# Altium schematic symbol library Blinkinlabs.SchLib: 159 symbols (part 1 of 2)
Pins are listed as number, name and electrical type; pins without a type are passive.

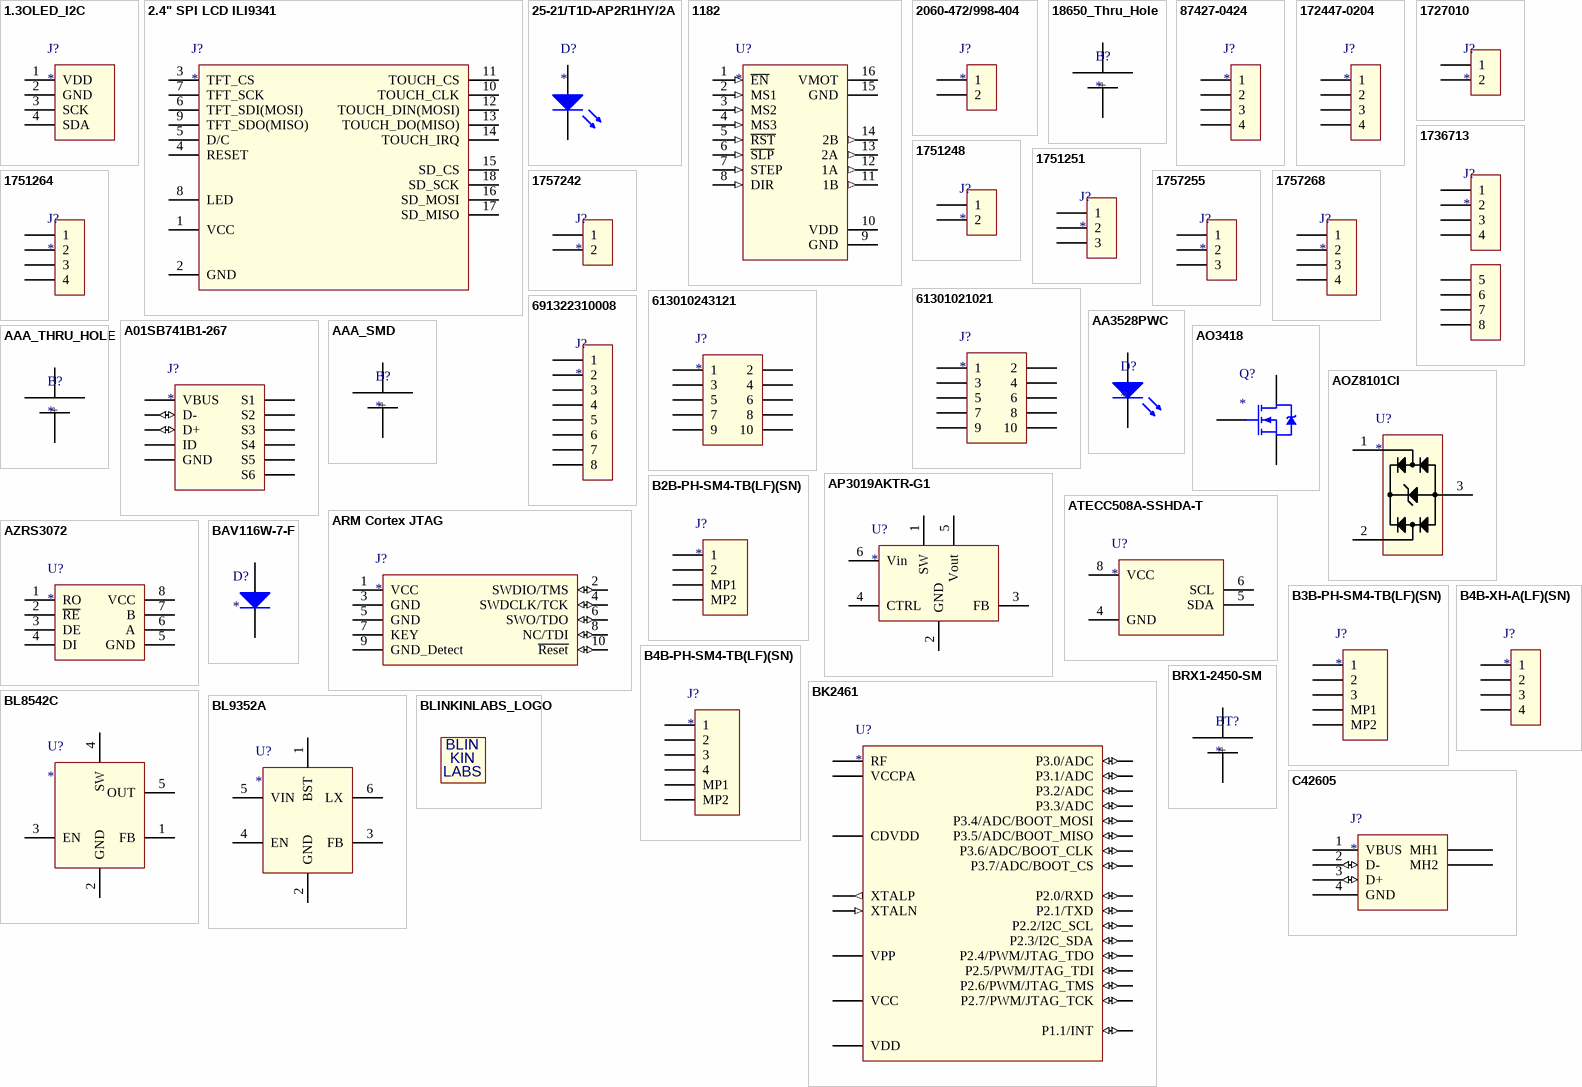
[diagram p0: symbols 1.3OLED_I2C to C42605]

## 1.3OLED_I2C
designator J?
Generic single color, 1.3" OLED with I2C connection; Manufacturer: Unknown/Generic; PartNumber: Unknown/Generic
pins: 1 VDD, 2 GND, 3 SCK, 4 SDA

## 2.4" SPI LCD ILI9341
designator J?
Generic 2.4 inch SPI LCD TFT serial module 240x320 with touch ILI9341; Manufacturer: Unknown/Generic; PartNumber: Unknown/Generic
footprint 2.4" SPI LCD ILI9341 (Generic 2.4 inch SPI LCD TFT serial module 240x320 with touch ILI9341)
pins: 1 VCC, 2 GND, 3 TFT_CS, 4 RESET, 5 D/C, 6 TFT_SDI(MOSI), 7 TFT_SCK, 8 LED, 9 TFT_SDO(MISO), 10 TOUCH_CLK, 11 TOUCH_CS, 12 TOUCH_DIN(MOSI), 13 TOUCH_DO(MISO), 14 TOUCH_IRQ, 15 SD_CS, 16 SD_MOSI, 17 SD_MISO, 18 SD_SCK

## 25-21/T1D-AP2R1HY/2A
designator D?
Reverse mount LED in 1206 package, white; Manufacturer: Everlight; PartNumber: 25-21/T1D-AP2R1HY/2A
footprint 25-21/T1D-AP2R1HY/2A (Reverse mount LED in 1206 package, white)
pins: 1, 2

## 1182
designator U?
A4988 Stepper Motor Driver Carrier; Manufacturer: Pololu; PartNumber: 1182
footprint A4988_Carrier (A4988 Stepper Motor Driver Carrier)
pins: 1 ~{EN} (in) "Enable", 2 MS1 (in) "Micostep mode select 1", 3 MS2 (in) "Micostep mode select 2", 4 MS3 (in) "Micostep mode select 3", 5 ~{RST} (in) "Reset", 6 ~{SLP} (in) "Sleep", 7 STEP (in) "Step input", 8 DIR (in) "Direction", 9 GND (power) "Ground", 10 VDD (power) "Logic voltage", 11 1B (out) "Coil B output 1", 12 1A (out) "Coil A output 1", 13 2A (out) "Coil A output 2", 14 2B (out) "Coil B output 2", 15 GND (power) "Ground", 16 VMOT (power) "Motor voltage"

## 2060-472/998-404
designator J?
SMD PCB terminal block; Push-button; 0.75 mm²; Pin spacing 4 mm; 2-pole; / Push-in CAGE CLAMP®; in tape-and-reel packaging; Manufacturer: Wago; PartNumber: 2060-472_998-404; ComponentLink2Description: Datasheet; ComponentLink2URL: Wago_2060-472_998-404.pdf
footprint 2060-472/998-404 (SMD PCB terminal block; Push-button; 0.75 mm²; Pin spacing 4 mm; 2-pole;   Push-in CAGE CLAMP®; in tape-and-reel packaging)
pins: 1, 2, 3, 4

## 18650_Thru_Hole
designator B?
18650 battery holder, thru-hole; Manufacturer: Unknown/Generic; PartNumber: Unknown/Generic
footprint 18650_thru_hole
pins: 1       + (power), 2       – (power)

## 87427-0424
designator J?
Molex Mini-Fit Jr.™ Header, 4.20mm Pitch, Right Angle, Nylon, without Mounting Flange, 4 Circuits, Tin (Sn) over Nickel (Ni) Plating, Lead-Free, Tube Packaging; PartNumber: 87427-0424; Manufacturer: Molex
footprint 87427-0424 (Molex Mini-Fit Jr.™ Header, 4.20mm Pitch, Right Angle, Nylon, without Mounting Flange, 4 Circuits, Tin (Sn) over Nickel (Ni) Plating, Lead-Free, Tube Packaging)
pins: 1, 2, 3, 4

## 172447-0204
designator J?
Mini-Fit Jr.™ Header, Dual Row, Vertical, without Snap-in Plastic Peg PCB Lock, 4 Circuits, PA Polyamide Nylon 6/6 94V-2, Tin (Sn) Plating, Glow Wire Capable; Manufacturer: Molex; PartNumber: 172447-0204
footprint 172447-0204 (Molex Mini-Fit Jr.™ Vertical Header, 4.20mm Pitch, Dual Row, 4 Circuits, without Snap-in Plastic Peg PCB Lock, Tin, Natural)
pins: 1, 2, 3, 4

## 1727010
designator J?
PCB terminal block, nominal current: 13.5 A, pitch: 3.81 mm, number of positions: 2, connection method: Screw connection with tension sleeve, mounting: Wave soldering, conductor/PCB connection direction: 0 °, color: green; Manufacturer: Phoenix Contact; PartNumber: 1727010; ComponentLink2Description: Datasheet; ComponentLink2URL: 1757268_06_en_00.pdf
footprint 1727010 (PCB terminal block - MKDS 1/ 2-3,81 - 1727010)
pins: 1, 2

## 1736713
designator J?
TERM BLOCK HDR 8POS 90DEG 5.08MM; Manufacturer: Phoenix Contact; PartNumber: 1736713; ComponentLink2Description: Datasheet; ComponentLink2URL: 1757268_06_en_00.pdf
footprint 1736713 (TERM BLOCK HDR 8POS 90DEG 5.08MM)
pins: 1, 2, 3, 4, 5, 6, 7, 8

## 1751248
designator J?
TERM BLK 2POS SIDE ENT 3.5MM PCB; Manufacturer: Phoenix Contact; PartNumber: 1751248
footprint 1751248 (TERM BLK 2POS SIDE ENT 3.5MM PCB)
pins: 1, 2

## 1751251
designator J?
TERM BLK 3POS SIDE ENT 3.5MM PCB; Manufacturer: Phoenix Contact; PartNumber: 1751251
footprint 1751251 (TERM BLK 3POS SIDE ENT 3.5MM PCB)
pins: 1, 2, 3

## 1751264
designator J?
TERM BLK 4POS SIDE ENT 3.5MM PCB; Manufacturer: Phoenix Contact; PartNumber: 1751264
footprint 1751264 (PCB terminal block - MKDS 1/ 4-3,5 - 1751264)
pins: 1, 2, 3, 4

## 1757242
designator J?
TERM BLOCK HDR 2POS 90DEG 5.08MM; Manufacturer: Phoenix Contact; PartNumber: 1757268; ComponentLink2Description: Datasheet; ComponentLink2URL: 1757268_06_en_00.pdf
footprint 1757242 (TERM BLOCK HDR 2POS 90DEG 5.08MM)
pins: 1, 2

## 1757255
designator J?
TERM BLOCK HDR 3POS 90DEG 5.08MM; Manufacturer: Phoenix Contact; PartNumber: 1757268; ComponentLink2Description: Datasheet; ComponentLink2URL: 1757268_06_en_00.pdf
footprint 1757255 (TERM BLOCK HDR 3POS 90DEG 5.08MM)
pins: 1, 2, 3

## 1757268
designator J?
TERM BLOCK HDR 4POS 90DEG 5.08MM; Manufacturer: Phoenix Contact; PartNumber: 1757268; ComponentLink2Description: Datasheet; ComponentLink2URL: 1757268_06_en_00.pdf
footprint 1757268 (TERM BLOCK HDR 4POS 90DEG 5.08MM)
pins: 1, 2, 3, 4

## 61301021021
designator J?
10 Positions Header Connector 0.100" (2.54mm) Through Hole, Right Angle Gold; Manufacturer: Wurth Electronics Inc; PartNumber: 61301021021; ComponentLink2Description: Datasheet; ComponentLink2URL: 6130xx21021.pdf
footprint 61301021021 (2.54MM ANGLED DUAL PIN HEADER)
pins: 1, 2, 3, 4, 5, 6, 7, 8, 9, 10

## 613010243121
designator J?
10 Position Header Connector 0.100" (2.54mm) Through Hole, Right Angle Gold; Manufacturer: Wurth Electronics Inc; PartNumber: 613010243121; ComponentLink2Description: Datasheet; ComponentLink2URL: 6130xx243121.pdf
footprint 613010243121 (2.54MM ANGLED DUAL SOCKET HEADER)
pins: 1, 2, 3, 4, 5, 6, 7, 8, 9, 10

## 691322310008
designator J?
8 Position Terminal Block Header, Male Pins, Shrouded (4 Side) 0.150" (3.81mm) 90°, Right Angle Through Hole; Manufacturer: Wurth Electronics Inc; PartNumber: 691322310008
footprint 691322310008 (8 Position Terminal Block Header, Male Pins, Shrouded (4 Side) 0.150" (3.81mm) 90°, Right Angle Through Hole)
pins: 1, 2, 3, 4, 5, 6, 7, 8

## A01SB741B1-267
designator J?
Micro USB B type 四脚全插牛角; PartNumber: Unknown/Generic; Manufacturer: Unknown/Generic
footprint A01SB741B1-267 (micro usb B type)
pins: D+ (io), D- (io), GND (power), ID, S1, S2, S3, S4, S5, S6, VBUS (power)

## AA3528PWC
designator D?
3.5x2.8mm SURFACE MOUNT LED LAMP, WHITE (InGaN); Manufacturer: Kingbright; PartNumber: AA3528PWC
footprint AA3528PWC (3.5x2.8mm SURFACE MOUNT LED LAMP)
footprint AA3528PWC -HD (3.5x2.8mm SURFACE MOUNT LED LAMP)
pins: 1, 2

## AAA_SMD
designator B?
AAA battery holder, surface mount.; Manufacturer: Unknown/Generic; PartNumber: Unknown/Generic
footprint AAA_SMD
pins: 1       + (power), 2       – (power)

## AAA_THRU_HOLE
designator B?
AAA battery holder, thru hole; Manufacturer: Unknown/Generic; PartNumber: Unknown/Generic
footprint AAA_SMD_THRU_HOLE
pins: 1       + (power), 2       – (power)

## AO3418
designator Q?
30V N-Channel MOSFET; Manufacturer: Alpha & Omega; PartNumber: AO3418; ComponentLink2Description: Datasheet; ComponentLink2URL: ao3418.pdf
footprint SOT95P280X125-3N (SOT23, 3-Leads, Body 2.95x2.80mm, Pitch 0.95mm, IPC Medium Density)
pins: 1 GATE, 2 SOURCE, 3 DRAIN

## AOZ8101CI
designator U?
Ultra-Low Capacitance TVS Diode Array; Manufacturer: Alpha & Omega; PartNumber: AOZ8101; ComponentLink2Description: Datasheet; ComponentLink2URL: AOZ8101.pdf
footprint SOT95P280X125-3N (SOT23, 3-Leads, Body 2.95x2.80mm, Pitch 0.95mm, IPC Medium Density)
pins: 1, 2, 3

## AP3019AKTR-G1
designator U?
WHITE  LED  STEP-UP  CONVERTER; Manufacturer: BCD  Semiconductor  Manufacturing  Limited; PartNumber: AP3019AKTR-G1
footprint SOT95P280X145-6N-2 (Footprint not found)
pins: 1 SW, 2 GND, 3 FB, 4 CTRL, 5 Vout, 6 Vin

## ARM Cortex JTAG
designator J?
Arm Cortex 10-pin JTAG connector; Manufacturer: Unknown/Generic; PartNumber: unknown/Generic
footprint 1.27mm 2x5 SMD Header
footprint 1.27mm 2x5 SMD Header - no paste
pins: 1 VCC (power), 2 SWDIO/TMS (io), 3 GND (power), 4 SWDCLK/TCK (io), 5 GND (power), 6 SWO/TDO (io), 7 KEY, 8 NC/TDI (io), 9 GND_Detect (power), 10 ~{Reset} (io)

## ATECC508A-SSHDA-T
designator U?
Cryptographic Co-processor with Secure Hardware-Based Key Storage; PartNumber: ATECC508A-SSHDA-T; Manufacturer: Microchip
footprint SOIC127P600X175-8N (SOIC, 8-Leads, Body 4.90x3.90mm, Pitch 1.27mm, IPC Medium Density)
pins: 4 GND, 5 SDA, 6 SCL, 8 VCC

## AZRS3072
designator U?
ESD-Protected, Slew-Rate-Limited, True Fail-Safe 3.3V RS485 Transceiver IC; Manufacturer: Amazing Microelectronic Corp.; PartNumber: AZRS3072
footprint SOIC127P600X175-8N (SOIC, 8-Leads, Body 4.90x3.90mm, Pitch 1.27mm, IPC Medium Density)
pins: 1 RO, 2 ~{RE}, 3 DE, 4 DI, 5 GND, 6 A, 7 B, 8 VCC

## B2B-PH-SM4-TB(LF)(SN)
designator J?
CONN HEADER SMD R/A 2POS 2MM; Manufacturer: JST; PartNumber: B2B-PH-SM4-TB(LF)(SN)
footprint B2B-PH-SM4-TB(LF)(SN) (CONN HEADER SMD 2POS 2MM)
pins: 1, 2, MP1, MP2

## B3B-PH-SM4-TB(LF)(SN)
designator J?
CONN HEADER SMD R/A 3POS 2MM; Manufacturer: JST; PartNumber: B3B-PH-SM4-TB(LF)(SN)
footprint B3B-PH-SM4-TB(LF)(SN) (CONN HEADER SMD 3POS 2MM)
pins: 1, 2, 3, MP1, MP2

## B4B-PH-SM4-TB(LF)(SN)
designator J?
CONN HEADER SMD R/A 3POS 2MM; Manufacturer: JST; PartNumber: B4B-PH-SM4-TB(LF)(SN)
footprint B4B-PH-SM4-TB(LF)(SN) (CONN HEADER SMD 4POS 2MM)
pins: 1, 2, 3, 4, MP1, MP2

## B4B-XH-A(LF)(SN)
designator J?
CONN HEADER XH TOP 4POS 2.5MM; Manufacturer: JST Manufacturing; PartNumber: B4B-XH-A(LF)(SN)
footprint B4B-XH-A(LF)(SN) (CONN HEADER XH TOP 4POS 2.5MM)
pins: 1, 2, 3, 4

## BAV116W-7-F
designator D?
Surface Mount Low Leakage Diode, Vr=130V, If=215mA, Vf=1.25V @ 150mA, Ir=5nA@25C; Manufacturer: Diodes Incorporated; PartNumber: BAV116W-7-F
footprint SOD123 (Hand drawn)
pins: 1 K, 2 A

## BK2461
designator U?
FLIP51 MCU+RF; Manufacturer: Beken; PartNumber: BK2461
footprint QFN50P400X400X90_HS-25N (QFN, 24-Leads, Body 4.00x4.00mm, Pitch 0.50mm, Thermal Pad 2.70x2.70mm, IPC Medium Density)
pins: 1 VCC (power) "3v supply", 2 RF "Antenna input/output", 3 VCCPA (power) "PA power output, connected with decoupling CAP", 4 P3.7/ADC/BOOT_CS (io) "General I/O，ADC input", 5 P3.6/ADC/BOOT_CLK (io) "General I/O，ADC input", 6 P3.5/ADC/BOOT_MISO (io) "General I/O，ADC input", 7 VPP (power) "Mode select and 6.5V power supply for OTP burning, or P12 output(PWM)", 8 P3.4/ADC/BOOT_MOSI (io) "General I/O，ADC input", 9 P3.3/ADC (io) "General I/O，ADC input", 10 P3.2/ADC (io) "General I/O，ADC input", 11 P1.1/INT (io) "General I/O， external interrupt", 12 P3.1/ADC (io) "General I/O，ADC input", 13 P2.0/RXD (io) "General I/O，or input for UART", 14 P3.0/ADC (io) "General I/O，ADC input", 15 P2.1/TXD (io) "General I/O，or output for UART", 16 P2.2/I2C_SCL (io) "General I/O，or I2C SCL", 17 P2.3/I2C_SDA (io) "General I/O，or I2C SDA", 18 P2.4/PWM/JTAG_TDO (io) "General I/O，or PWM, or JTAG", 19 P2.5/PWM/JTAG_TDI (io) "General I/O，or PWM, or JTAG", 20 P2.7/PWM/JTAG_TCK (io) "General I/O，or PWM, or JTAG", 21 P2.6/PWM/JTAG_TMS (io) "General I/O，or PWM, or JTAG", 22 CDVDD "power output, connected with decoupling CAP", 23 XTALP (out) "Oscillator output", 24 XTALN (in) "Oscillator input", 25 VDD (power)

## BL8542C
designator U?
0.85V startup, 1MHz, 300mA Iout,  Synchronous Boost Converter (adjustable output); Manufacturer: Belling; PartNumber: BL8542C
footprint SOT95P280X130-5N (SOT23, 5-Leads, Body 2.90x2.80mm, Pitch 0.95mm, IPC Medium Density)
pins: 1 FB, 2 GND, 3 EN, 4 SW, 5 OUT

## BL9352A
designator U?
45V, 1.6MHz, 600mA Step-Down Converter; Manufacturer: Belling; PartNumber: BL9352A; ComponentLink2Description: Datasheet; ComponentLink2URL: BL9352A_V1.1_en.pdf
footprint SOT95P280X125-6N (SOT23, 6-Leads, Body 2.92x2.80mm, Pitch 0.95mm, IPC Medium Density)
pins: 1 BST "Bootstrap pin for top Switch. In Typ. application, a 0.1uF or larger capacitor should be connected between this pin and the LX pin to supply current to the top Switch gate and top Switch driver.", 2 GND "Analog Ground", 3 FB "Output feedback pin. In Typ. application, FB senses the output voltage and is regulated by the control loop to 800mV. Connect a resistive divider at FB.", 4 EN "Drive EN pin high to turn on the regulator and low to turn off the regulator", 5 VIN "Input voltage pin, In Typ. application, VIN supplies power to the IC. Connect a 4.5V to 45V supply to VIN and bypass VIN to GND with a suitably large capacitor to eliminate noise on the input to the IC.", 6 LX "LX is the Switching node that supplies power to the output Connect the output LC filter from LX to the output load."

## BLINKINLABS_LOGO
designator L?  (value not drawn)  (graphical)
Square logo
footprint BLINKINLABS_LOGO (Square blinkinlabs logo)
footprint BLINKINLABS_LOGO_SMALL (Small blinkinlabs logo)
text: BLIN; KIN; LABS

## BRX1-2450-SM
designator BT?
BATTERY HOLDER COIN CELL; Manufacturer: Memory Protection Devices, Inc; PartNumber: BRX1-2450-SM
footprint BRX1-2450-SM (CR2450 Surface Mount Battery Retainer)
pins: N       – (power), V1       + (power), V2 + (power), V3 + (power)

## C42605
designator J?
USB A connector, SMD, no tabs; Manufacturer: LC (立创); PartNumber: C42605
footprint C42605 (USB-A SMD)
pins: 1 VBUS (power) "USB 5V", 2 D- (io) "USB Data, negative", 3 D+ (io) "USB Data, positive", 4 GND (power) "Ground", 5 MH2 "Mounting Hole", 6 MH1 "Mounting Hole"

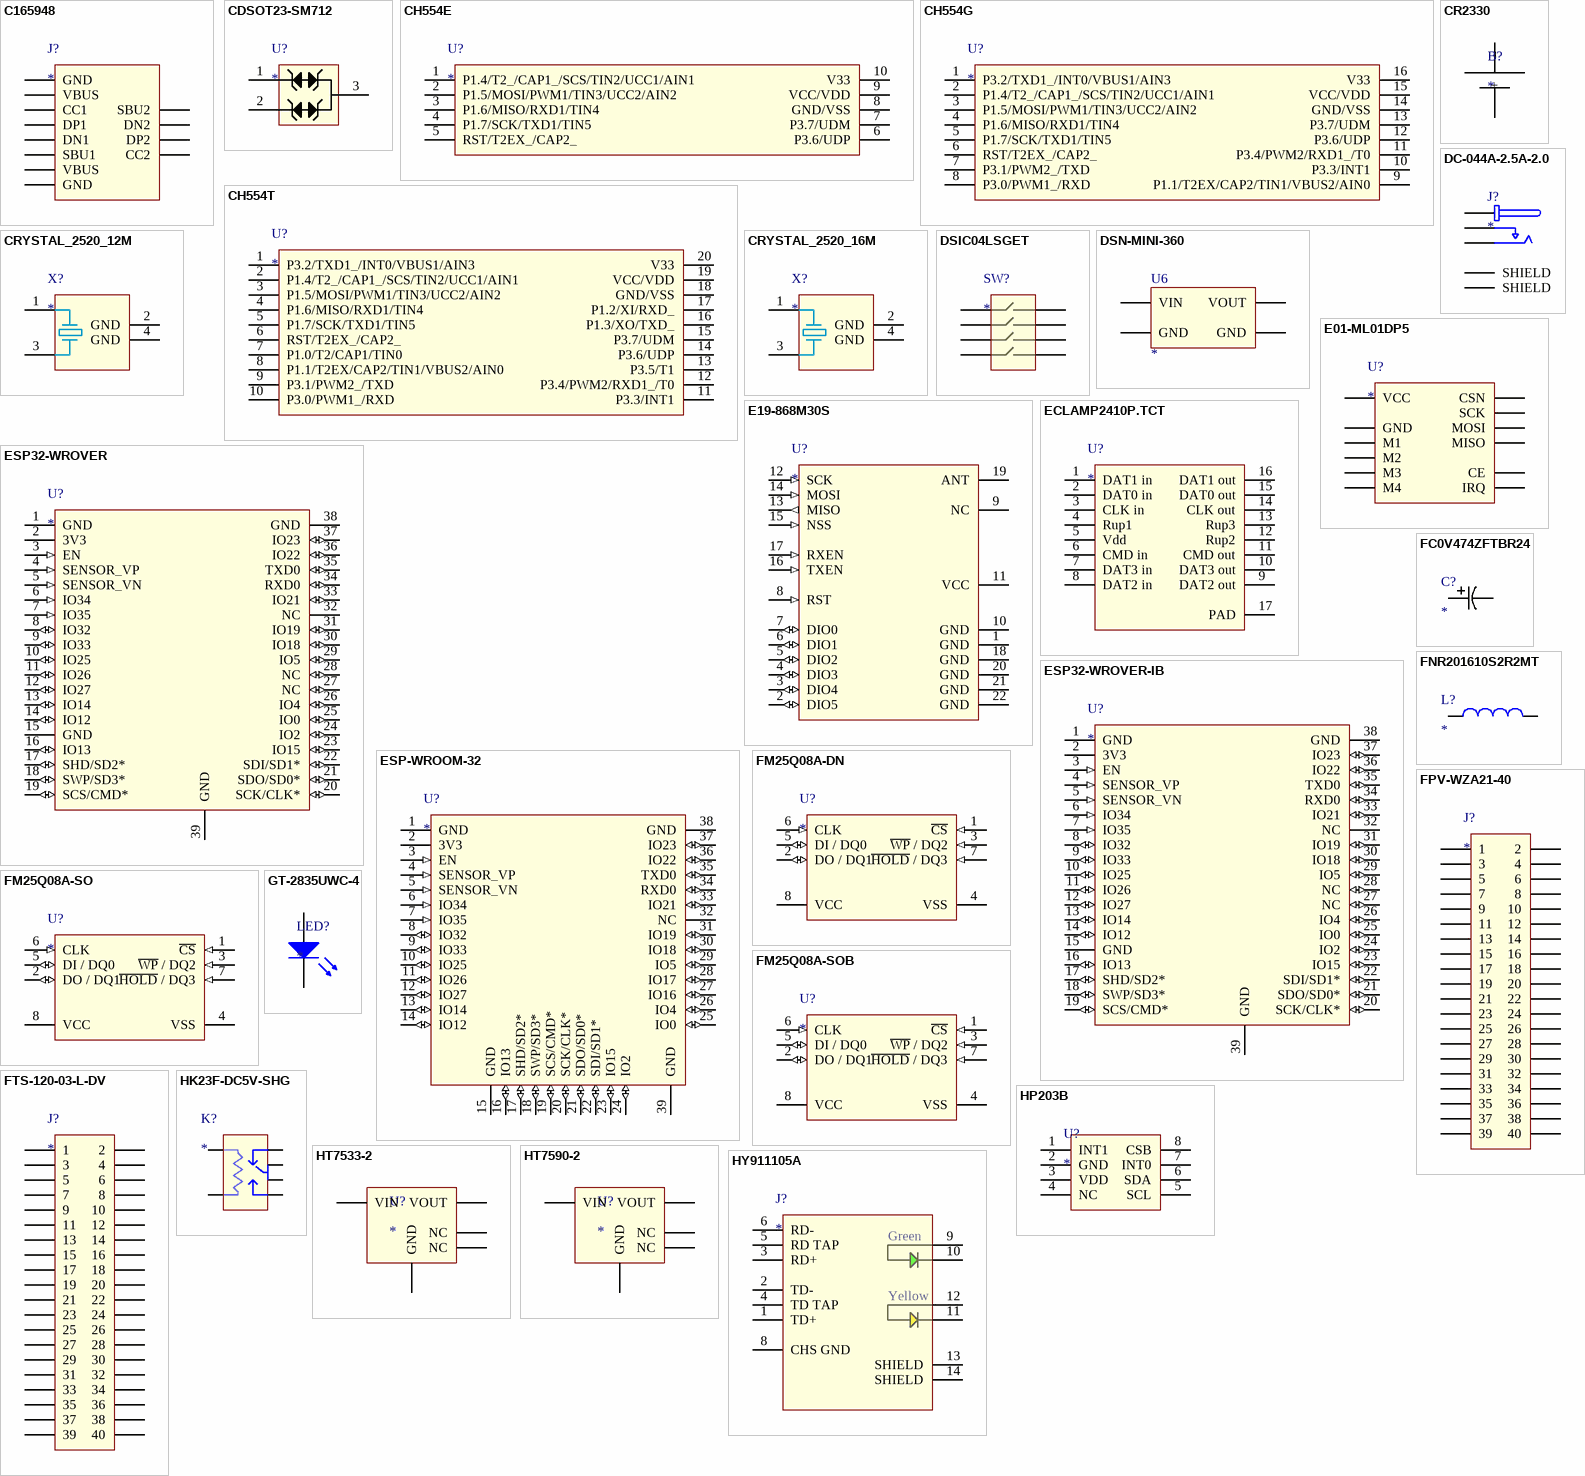
[diagram p1: symbols C165948 to HY911105A]

## C165948
designator J?
USB Connector TYPE-C-31-M-12 Female 16P SMD; Manufacturer: HRO; PartNumber: C165948
footprint C165948 (USB Connector TYPE-C-31-M-12 Female 16P SMD)
pins: A1/B12 GND, A4/B9 VBUS, A5 CC1, A6 DP1, A7 DN1, A8 SBU1, A9/B4 VBUS, A12/B1 GND, B5 CC2, B6 DP2, B7 DN2, B8 SBU2

## CDSOT23-SM712
designator U?
600 WATT TVS ARRAY - ASYMMETRICAL DATA LINE PROTECTOR; Manufacturer: Bourns; PartNumber: CDSOT23-SM712; ComponentLink2Description: Datasheet; ComponentLink2URL: Bourns CDSOT23-SM712.pdf
footprint SOT95P230X117-3N (SOT23, 3-Leads, Body 2.90x2.30mm, Pitch 0.95mm, IPC Medium Density)
pins: 1, 2, 3

## CH554E
designator U?
8-bit enhanced USB microcontroller; Manufacturer: WCH; PartNumber: CH554E
footprint LC-MSOP-10 (Footprint from SZLCSC example)
pins: 1 P1.4/T2_/CAP1_/SCS/TIN2/UCC1/AIN1, 2 P1.5/MOSI/PWM1/TIN3/UCC2/AIN2, 3 P1.6/MISO/RXD1/TIN4, 4 P1.7/SCK/TXD1/TIN5, 5 RST/T2EX_/CAP2_, 6 P3.6/UDP, 7 P3.7/UDM, 8 GND/VSS (power), 9 VCC/VDD (power), 10 V33 (power)

## CH554G
designator U?
8-bit enhanced USB microcontroller; Manufacturer: WCH; PartNumber: CH554G
footprint SOP127P600X175-16N (SOP, 16-Leads, Body 9.90x3.90mm, Pitch 1.27mm, IPC Medium Density)
pins: 1 P3.2/TXD1_/INT0/VBUS1/AIN3, 2 P1.4/T2_/CAP1_/SCS/TIN2/UCC1/AIN1, 3 P1.5/MOSI/PWM1/TIN3/UCC2/AIN2, 4 P1.6/MISO/RXD1/TIN4, 5 P1.7/SCK/TXD1/TIN5, 6 RST/T2EX_/CAP2_, 7 P3.1/PWM2_/TXD, 8 P3.0/PWM1_/RXD, 9 P1.1/T2EX/CAP2/TIN1/VBUS2/AIN0, 10 P3.3/INT1, 11 P3.4/PWM2/RXD1_/T0, 12 P3.6/UDP, 13 P3.7/UDM, 14 GND/VSS (power), 15 VCC/VDD (power), 16 V33 (power)

## CH554T
designator U?
8-bit enhanced USB microcontroller; Manufacturer: WCH; PartNumber: CH554T
footprint TSOP65P660X110-20N (TSOP, 20-Leads, Body 6.50x4.40mm, Pitch 0.65mm, IPC Medium Density)
pins: 1 P3.2/TXD1_/INT0/VBUS1/AIN3, 2 P1.4/T2_/CAP1_/SCS/TIN2/UCC1/AIN1, 3 P1.5/MOSI/PWM1/TIN3/UCC2/AIN2, 4 P1.6/MISO/RXD1/TIN4, 5 P1.7/SCK/TXD1/TIN5, 6 RST/T2EX_/CAP2_, 7 P1.0/T2/CAP1/TIN0, 8 P1.1/T2EX/CAP2/TIN1/VBUS2/AIN0, 9 P3.1/PWM2_/TXD, 10 P3.0/PWM1_/RXD, 11 P3.3/INT1, 12 P3.4/PWM2/RXD1_/T0, 13 P3.5/T1, 14 P3.6/UDP, 15 P3.7/UDM, 16 P1.3/XO/TXD_, 17 P1.2/XI/RXD_, 18 GND/VSS (power), 19 VCC/VDD (power), 20 V33 (power)

## CR2330
designator B?
CR2330 clip, Blinkinlabs design; Manufacturer: Blinkinlabs; PartNumber: CR2330
footprint CR2330 (Speculative case design for a CR2330)
pins: 1 + (power), 2       + (power), 3       – (power)

## CRYSTAL_2520_12M
designator X?
12 MHz, 8pF, 2520 Crystal resonator; Manufacturer: Kyocera; PartNumber: CX2520DB12000D0FLJC1; ComponentLink2Description: Datasheet; ComponentLink2URL: cx2520db_e.pdf
footprint CRYSTAL_SMD_2520 (Hand Drawn, 4-Leads, Body 2.5x2.0 mm)
pins: 1 XTAL1, 2 GND (power) "Ground", 3 XTAL2, 4 GND (power) "Ground"

## CRYSTAL_2520_16M
designator X?
16 MHz 2520 Crystal resonator; Manufacturer: Kyocera; PartNumber: CX2520DB16000D0GEJCC; ComponentLink2Description: Datasheet; ComponentLink2URL: cx2520db_e.pdf
footprint CRYSTAL_SMD_2520 (Hand Drawn, 4-Leads, Body 2.5x2.0 mm)
pins: 1 XTAL1, 2 GND (power) "Ground", 3 XTAL2, 4 GND (power) "Ground"

## DC-044A-2.5A-2.0
designator J?
DC Jack, 6mm OD, 2mm ID; Manufacturer: XKB; PartNumber: DC-044A-2.5A-2.0
footprint DC-044A-2.5A-2.0 (DC Jack, 6mm OD, 2mm ID)
pins: 1, 2, 3, 4 SHIELD, 5 SHIELD

## DSIC04LSGET
designator SW?
DIP switch / 2.54mm 4-bit; Manufacturer: KE; PartNumber: DSIC04LSGET
footprint DSIC04LSGET (DIP switch / 2.54mm 4-bit)
pins: 1, 2, 3, 4, 5, 6, 7, 8

## DSN-MINI-360
designator U6
Mini DC Adjustable Power Supply Buck Module Step Down Module; Manufacturer: Unknown/Generic; PartNumber: DSN-MINI-360
footprint DSN-MINI-360 (Mini DC Adjustable Power Supply Buck Module Step Down Module)
pins: IN+ VIN (power), IN- GND (power), OUT+ VOUT (power), OUT- GND (power)

## E01-ML01DP5
designator U?
2.4GHz 22dBm nRF24L01P+PA+LNA Wireless Transmission Module Shield Case; Manufacturer: Chengdu Ebyte Electronic Technology Co; PartNumber: E01-ML01DP5
footprint E01-ML01DP5 (2.4GHz 22dBm nRF24L01P+PA+LNA Wireless Transmission Module Shield Case)
pins: 1 GND, 2 VCC, 3 CE, 4 CSN, 5 SCK, 6 MOSI, 7 MISO, 8 IRQ, 9 M1, 10 M2, 11 M3, 12 M4

## E19-868M30S
designator U?
E19-868M30Sis a small-sized 868MHz LoRaTMSMD wireless module,  based on  the  original  imported  RF  chip  SX1276  from SEMTECH.; Manufacturer: Chengdu Ebyte Electronic Technology Co; PartNumber: E19-868M30S
footprint E19-868M30S (E19-868M30Sis a small-sized 868MHz LoRaTMSMD wireless module,  based on  the  original  imported  RF  chip  SX1276  from SEMTECH.)
pins: 1 GND (power), 2 DIO5 (io), 3 DIO4 (io), 4 DIO3 (io), 5 DIO2 (io), 6 DIO1 (io), 7 DIO0 (io), 8 RST (in), 9 NC, 10 GND (power), 11 VCC (power), 12 SCK (in), 13 MISO (out), 14 MOSI (in), 15 NSS (in), 16 TXEN (in), 17 RXEN (in), 18 GND (power), 19 ANT, 20 GND, 21 GND, 22 GND

## ECLAMP2410P.TCT
designator U?
ESD  Protection Device for T-Flash/MicroSD Interfaces; Manufacturer: Semtech; PartNumber: ECLAMP2410P.TCT
footprint SON50P160X65_HS-17N (SON, 16-Leads, Body 4.00x1.60mm, Pitch 0.50mm, Thermal Pad 3.20x0.33mm, IPC Medium Density)
pins: 1 DAT1 in, 2 DAT0 in, 3 CLK in, 4 Rup1, 5 Vdd, 6 CMD in, 7 DAT3 in, 8 DAT2 in, 9 DAT2 out, 10 DAT3 out, 11 CMD out, 12 Rup2, 13 Rup3, 14 CLK out, 15 DAT0 out, 16 DAT1 out, 17 PAD

## ESP32-WROVER
designator U?
ESP32 module with 4MB PSRAM; Manufacturer: Espressif Systems; PartNumber: ESP32-WROVER
footprint ESP32-WROVER
pins: 1 GND (power) "Ground", 2 3V3 (power) "Power supply", 3 EN (in) "Chip-enable signal. Active high", 4 SENSOR_VP (in) "GPIO36, SENSOR_VP, ADC_H, ADC1_CH0, RTC_GPIO0", 5 SENSOR_VN (in) "GPIO39, SENSOR_VN, ADC1_CH3, ADC_H, RTC_GPIO3", 6 IO34 (in) "GPIO34, ADC1_CH6, RTC_GPIO4", 7 IO35 (in) "GPIO35, ADC1_CH7, RTC_GPIO5", 8 IO32 (io) "GPIO32, XTAL_32K_P (32.768 kHz crystal oscillator input), ADC1_CH4, TOUCH9, RTC_BPIO9", 9 IO33 (io) "GPIO33, XTAL_32K_N (32.768 kHz crystal oscillator output), ADC1_CH5,  TOUCH8, RTC_GPIO8", 10 IO25 (io) "GPIO25, DAC_1, ADC2_CH8, RTC_GPIO6, EMAC_RXD0", 11 IO26 (io) "GPIO26, DAC_2, ADC2_CH9, RTC_GPIO7, EMAC_RXD1", 12 IO27 (io) "GPIO27, ADC2_CH7, TOUCH7, RTC_GPIO17, EMAC_RX_DV", 13 IO14 (io) "GPIO14, ADC2_CH6, TOUCH6, RTC_GPIO16, MTMS, HSPICLK,  HS2_CLK, SD_CLK, EMAC_TXD2", 14 IO12 (io) "GPIO12, ADC2_CH5, TOUCH5, RTC_GPIO15, MTDI, HSPIQ,  HS2_DATA2, SD_DATA2, EMAC_TXD3", 15 GND (power) "Ground", 16 IO13 (io) "GPIO13, ADC2_CH4, TOUCH4, RTC_GPIO14, MTCK, HSPID,  HS2_DATA3, SD_DATA3, EMAC_RX_ER", 17 SHD/SD2* (io) "GPIO9, SD_DATA2, SPIHD, HS1_DATA2, U1RXD", 18 SWP/SD3* (io) "GPIO10, SD_DATA3, SPIWP, HS1_DATA3, U1TXD", 19 SCS/CMD* (io) "GPIO11, SD_CMD, SPICS0, HS1_CMD, U1RTS", 20 SCK/CLK* (io) "GPIO6, SD_CLK, SPICLK, HS1_CLK, U1CTS", 21 SDO/SD0* (io) "GPIO7, SD_DATA0, SPIQ, HS1_DATA0, U2RTS", 22 SDI/SD1* (io) "GPIO8, SD_DATA1, SPID, HS1_DATA1, U2CTS", 23 IO15 (io) "GPIO15, ADC2_CH3, TOUCH3, MTDO, HSPICS0, RTC_GPIO13,  HS2_CMD, SD_CMD, EMAC_RXD3", 24 IO2 (io) "GPIO2, ADC2_CH2, TOUCH2, RTC_GPIO12, HSPIWP, HS2_DATA0,  SD_DATA0", 25 IO0 (io) "GPIO0, ADC2_CH1, TOUCH1, RTC_GPIO11, CLK_OUT1,  EMAC_TX_CLK", 26 IO4 (io) "GPIO4, ADC2_CH0, TOUCH0, RTC_GPIO10, HSPIHD, HS2_DATA1,  SD_DATA1, EMAC_TX_ER", 27 NC (io), 28 NC (io), 29 IO5 (io) "GPIO5, VSPICS0, HS1_DATA6, EMAC_RX_CLK", 30 IO18 (io) "GPIO18, VSPICLK, HS1_DATA7", 31 IO19 (io) "GPIO19, VSPIQ, U0CTS, EMAC_TXD0", 32 NC, 33 IO21 (io) "GPIO21, VSPIHD, EMAC_TX_EN", 34 RXD0 (io) "GPIO3, U0RXD, CLK_OUT2", 35 TXD0 (io) "GPIO1, U0TXD, CLK_OUT3, EMAC_RXD2", 36 IO22 (io) "GPIO22, VSPIWP, U0RTS, EMAC_TXD1", 37 IO23 (io) "GPIO23, VSPID, HS1_STROBE", 38 GND (power) "Ground", 39 GND (power) "Ground"

## ESP32-WROVER-IB
designator U?
ESP32 module with 8MB PSRAM and external antenna; Manufacturer: Espressif Systems; PartNumber: ESP32-WROVER-IB
footprint ESP32-WROVER
pins: 1 GND (power) "Ground", 2 3V3 (power) "Power supply", 3 EN (in) "Chip-enable signal. Active high", 4 SENSOR_VP (in) "GPIO36, SENSOR_VP, ADC_H, ADC1_CH0, RTC_GPIO0", 5 SENSOR_VN (in) "GPIO39, SENSOR_VN, ADC1_CH3, ADC_H, RTC_GPIO3", 6 IO34 (in) "GPIO34, ADC1_CH6, RTC_GPIO4", 7 IO35 (in) "GPIO35, ADC1_CH7, RTC_GPIO5", 8 IO32 (io) "GPIO32, XTAL_32K_P (32.768 kHz crystal oscillator input), ADC1_CH4, TOUCH9, RTC_BPIO9", 9 IO33 (io) "GPIO33, XTAL_32K_N (32.768 kHz crystal oscillator output), ADC1_CH5,  TOUCH8, RTC_GPIO8", 10 IO25 (io) "GPIO25, DAC_1, ADC2_CH8, RTC_GPIO6, EMAC_RXD0", 11 IO26 (io) "GPIO26, DAC_2, ADC2_CH9, RTC_GPIO7, EMAC_RXD1", 12 IO27 (io) "GPIO27, ADC2_CH7, TOUCH7, RTC_GPIO17, EMAC_RX_DV", 13 IO14 (io) "GPIO14, ADC2_CH6, TOUCH6, RTC_GPIO16, MTMS, HSPICLK,  HS2_CLK, SD_CLK, EMAC_TXD2", 14 IO12 (io) "GPIO12, ADC2_CH5, TOUCH5, RTC_GPIO15, MTDI, HSPIQ,  HS2_DATA2, SD_DATA2, EMAC_TXD3", 15 GND (power) "Ground", 16 IO13 (io) "GPIO13, ADC2_CH4, TOUCH4, RTC_GPIO14, MTCK, HSPID,  HS2_DATA3, SD_DATA3, EMAC_RX_ER", 17 SHD/SD2* (io) "GPIO9, SD_DATA2, SPIHD, HS1_DATA2, U1RXD", 18 SWP/SD3* (io) "GPIO10, SD_DATA3, SPIWP, HS1_DATA3, U1TXD", 19 SCS/CMD* (io) "GPIO11, SD_CMD, SPICS0, HS1_CMD, U1RTS", 20 SCK/CLK* (io) "GPIO6, SD_CLK, SPICLK, HS1_CLK, U1CTS", 21 SDO/SD0* (io) "GPIO7, SD_DATA0, SPIQ, HS1_DATA0, U2RTS", 22 SDI/SD1* (io) "GPIO8, SD_DATA1, SPID, HS1_DATA1, U2CTS", 23 IO15 (io) "GPIO15, ADC2_CH3, TOUCH3, MTDO, HSPICS0, RTC_GPIO13,  HS2_CMD, SD_CMD, EMAC_RXD3", 24 IO2 (io) "GPIO2, ADC2_CH2, TOUCH2, RTC_GPIO12, HSPIWP, HS2_DATA0,  SD_DATA0", 25 IO0 (io) "GPIO0, ADC2_CH1, TOUCH1, RTC_GPIO11, CLK_OUT1,  EMAC_TX_CLK", 26 IO4 (io) "GPIO4, ADC2_CH0, TOUCH0, RTC_GPIO10, HSPIHD, HS2_DATA1,  SD_DATA1, EMAC_TX_ER", 27 NC (io), 28 NC (io), 29 IO5 (io) "GPIO5, VSPICS0, HS1_DATA6, EMAC_RX_CLK", 30 IO18 (io) "GPIO18, VSPICLK, HS1_DATA7", 31 IO19 (io) "GPIO19, VSPIQ, U0CTS, EMAC_TXD0", 32 NC, 33 IO21 (io) "GPIO21, VSPIHD, EMAC_TX_EN", 34 RXD0 (io) "GPIO3, U0RXD, CLK_OUT2", 35 TXD0 (io) "GPIO1, U0TXD, CLK_OUT3, EMAC_RXD2", 36 IO22 (io) "GPIO22, VSPIWP, U0RTS, EMAC_TXD1", 37 IO23 (io) "GPIO23, VSPID, HS1_STROBE", 38 GND (power) "Ground", 39 GND (power) "Ground"

## ESP-WROOM-32
designator U?
ESP32 module; Manufacturer: Espressif Systems; PartNumber: ESP-WROOM-32
footprint ESP-WROOM-32
pins: 1 GND (power) "Ground", 2 3V3 (power) "Power supply", 3 EN (in) "Chip-enable signal. Active high", 4 SENSOR_VP (in) "GPIO36, SENSOR_VP, ADC_H, ADC1_CH0, RTC_GPIO0", 5 SENSOR_VN (in) "GPIO39, SENSOR_VN, ADC1_CH3, ADC_H, RTC_GPIO3", 6 IO34 (in) "GPIO34, ADC1_CH6, RTC_GPIO4", 7 IO35 (in) "GPIO35, ADC1_CH7, RTC_GPIO5", 8 IO32 (io) "GPIO32, XTAL_32K_P (32.768 kHz crystal oscillator input), ADC1_CH4, TOUCH9, RTC_BPIO9", 9 IO33 (io) "GPIO33, XTAL_32K_N (32.768 kHz crystal oscillator output), ADC1_CH5,  TOUCH8, RTC_GPIO8", 10 IO25 (io) "GPIO25, DAC_1, ADC2_CH8, RTC_GPIO6, EMAC_RXD0", 11 IO26 (io) "GPIO26, DAC_2, ADC2_CH9, RTC_GPIO7, EMAC_RXD1", 12 IO27 (io) "GPIO27, ADC2_CH7, TOUCH7, RTC_GPIO17, EMAC_RX_DV", 13 IO14 (io) "GPIO14, ADC2_CH6, TOUCH6, RTC_GPIO16, MTMS, HSPICLK,  HS2_CLK, SD_CLK, EMAC_TXD2", 14 IO12 (io) "GPIO12, ADC2_CH5, TOUCH5, RTC_GPIO15, MTDI, HSPIQ,  HS2_DATA2, SD_DATA2, EMAC_TXD3", 15 GND (power) "Ground", 16 IO13 (io) "GPIO13, ADC2_CH4, TOUCH4, RTC_GPIO14, MTCK, HSPID,  HS2_DATA3, SD_DATA3, EMAC_RX_ER", 17 SHD/SD2* (io) "GPIO9, SD_DATA2, SPIHD, HS1_DATA2, U1RXD", 18 SWP/SD3* (io) "GPIO10, SD_DATA3, SPIWP, HS1_DATA3, U1TXD", 19 SCS/CMD* (io) "GPIO11, SD_CMD, SPICS0, HS1_CMD, U1RTS", 20 SCK/CLK* (io) "GPIO6, SD_CLK, SPICLK, HS1_CLK, U1CTS", 21 SDO/SD0* (io) "GPIO7, SD_DATA0, SPIQ, HS1_DATA0, U2RTS", 22 SDI/SD1* (io) "GPIO8, SD_DATA1, SPID, HS1_DATA1, U2CTS", 23 IO15 (io) "GPIO15, ADC2_CH3, TOUCH3, MTDO, HSPICS0, RTC_GPIO13,  HS2_CMD, SD_CMD, EMAC_RXD3", 24 IO2 (io) "GPIO2, ADC2_CH2, TOUCH2, RTC_GPIO12, HSPIWP, HS2_DATA0,  SD_DATA0", 25 IO0 (io) "GPIO0, ADC2_CH1, TOUCH1, RTC_GPIO11, CLK_OUT1,  EMAC_TX_CLK", 26 IO4 (io) "GPIO4, ADC2_CH0, TOUCH0, RTC_GPIO10, HSPIHD, HS2_DATA1,  SD_DATA1, EMAC_TX_ER", 27 IO16 (io) "GPIO16, HS1_DATA4, U2RXD, EMAC_CLK_OUT", 28 IO17 (io) "GPIO17, HS1_DATA5, U2TXD, EMAC_CLK_OUT_180", 29 IO5 (io) "GPIO5, VSPICS0, HS1_DATA6, EMAC_RX_CLK", 30 IO18 (io) "GPIO18, VSPICLK, HS1_DATA7", 31 IO19 (io) "GPIO19, VSPIQ, U0CTS, EMAC_TXD0", 32 NC, 33 IO21 (io) "GPIO21, VSPIHD, EMAC_TX_EN", 34 RXD0 (io) "GPIO3, U0RXD, CLK_OUT2", 35 TXD0 (io) "GPIO1, U0TXD, CLK_OUT3, EMAC_RXD2", 36 IO22 (io) "GPIO22, VSPIWP, U0RTS, EMAC_TXD1", 37 IO23 (io) "GPIO23, VSPID, HS1_STROBE", 38 GND (power) "Ground", 39 GND (power) "Ground"

## FC0V474ZFTBR24
designator C?
Surface Mount EDLC Supercapactior, .47F, 3.5V; PartNumber: FC0V474ZFTBR24; Manufacturer: KEMET
footprint FC0V474ZFTBR24
footprint FC0V474ZFTBR24-L
footprint FC0V474ZFTBR24-M
pins: 1, 2

## FM25Q08A-DN
designator U?
8M-BIT SERIAL FLASH MEMORY, 208mil width; Manufacturer: Shanghai Fudan Microelectronics Group Company Limited; PartNumber: FM25Q08A-SOB
footprint SON50P300X80_HS-9N (SON, 8-Leads, Body 2.00x3.00mm, Pitch 0.50mm, Thermal Pad 1.50x1.49mm, IPC Medium Density)
pins: 1 ~{CS} (in) "Chip Select Input", 2 DO / DQ1 (io) "Data Input / Output", 3 ~{WP} / DQ2 (in) "Write Protect Input", 4 VSS (power) "Ground", 5 DI / DQ0 (io) "Data Input / Output", 6 CLK (in) "Serial Clock Input", 7 ~{HOLD} / DQ3 (in) "Hold Input", 8 VCC (power) "Power Supply"

## FM25Q08A-SO
designator U?
8M-BIT SERIAL FLASH MEMORY, 150mil width; Manufacturer: Shanghai Fudan Microelectronics Group Company Limited; PartNumber: FM25Q08A-SO
footprint SOP127P600X175-8N (SOP, 8-Leads, Body 4.93x3.90mm, Pitch 1.27mm, IPC Medium Density)
pins: 1 ~{CS} (in) "Chip Select Input", 2 DO / DQ1 (io) "Data Input / Output", 3 ~{WP} / DQ2 (in) "Write Protect Input", 4 VSS (power) "Ground", 5 DI / DQ0 (io) "Data Input / Output", 6 CLK (in) "Serial Clock Input", 7 ~{HOLD} / DQ3 (in) "Hold Input", 8 VCC (power) "Power Supply"

## FM25Q08A-SOB
designator U?
8M-BIT SERIAL FLASH MEMORY, 208mil width; Manufacturer: Shanghai Fudan Microelectronics Group Company Limited; PartNumber: FM25Q08A-SOB
footprint SOP127P790X210-8N (SOP, 8-Leads, Body 5.23x5.28mm, Pitch 1.27mm, IPC Medium Density)
pins: 1 ~{CS} (in) "Chip Select Input", 2 DO / DQ1 (io) "Data Input / Output", 3 ~{WP} / DQ2 (in) "Write Protect Input", 4 VSS (power) "Ground", 5 DI / DQ0 (io) "Data Input / Output", 6 CLK (in) "Serial Clock Input", 7 ~{HOLD} / DQ3 (in) "Hold Input", 8 VCC (power) "Power Supply"

## FNR201610S2R2MT
designator L?
Wire Wound SMD Power Inductors 2.0×1.6×1.0 2.2uH; PartNumber: FNR201610S2R2MT; Manufacturer: Changjiang Microelectronics Tech
footprint FNR201610S (Wire Wound SMD Power Inductors 2.0×1.6×1.0)
pins: 1, 2

## FPV-WZA21-40
designator J?
FPC/FFC 0.5mm PITCH ZIF SMD TYPE CONNECTOR; Manufacturer: Morethanall (煜倫); PartNumber: FPV-WSA21-40
footprint FPV-WZA21-40 (FPC/FFC 0.5mm PITCH ZIF SMD TYPE CONNECTOR)
pins: 1, 2, 3, 4, 5, 6, 7, 8, 9, 10, 11, 12, 13, 14, 15, 16, 17, 18, 19, 20, 21, 22, 23, 24, 25, 26, 27, 28, 29, 30, 31, 32, 33, 34, 35, 36, 37, 38, 39, 40

## FTS-120-03-L-DV
designator J?
CONN HEADER 40POS DUAL .05" SMD; PartNumber: FTS-120-03-L-DV; Manufacturer: Samtec
footprint FTS-120-03-L-DV (CONN HEADER 40POS DUAL .05" SMD)
pins: 1, 2, 3, 4, 5, 6, 7, 8, 9, 10, 11, 12, 13, 14, 15, 16, 17, 18, 19, 20, 21, 22, 23, 24, 25, 26, 27, 28, 29, 30, 31, 32, 33, 34, 35, 36, 37, 38, 39, 40

## GT-2835UWC-4
designator LED?
2835 Plue White LED; Manufacturer: Unknown/Generic; PartNumber: GT-2835UWC-4
footprint GT-2835UWC-4 (2835 Plue White LED)
pins: 1, 2

## HK23F-DC5V-SHG
designator K?
Manufacturer: NINGBO BOLE; PartNumber: HK23F-DC5V-SHG
footprint HK23F-DC5V-SHG (SUBMINIATURE HIGH POWER RELAY)
pins: 1 NO, 2 C+, 3 SRC1, 4 SRC2, 5 C-, 6 NC

## HP203B
designator U?
PRECISION BAROMETER AND ALTIMETER SENSOR; Manufacturer: HopeRF; PartNumber: HP203B
footprint HP203B (PRECISION BAROMETER AND ALTIMETER SENSOR)
pins: 1 INT1, 2 GND (power), 3 VDD (power), 4 NC, 5 SCL, 6 SDA, 7 INT0, 8 CSB

## HT7533-2
designator U?
3.3V 100mA TinyPower LDO; Manufacturer: Holtek; PartNumber: HT7533-2
footprint SOT95P280X145-5N (SOT23, 5-Leads, Body 2.90x2.80mm, Pitch 0.95mm, IPC Medium Density)
pins: 1 GND, 2 VIN, 3 VOUT, 4 NC, 5 NC

## HT7590-2
designator U?
9V 100mA TinyPower LDO; Manufacturer: Holtek; PartNumber: HT7590-2
footprint SOT95P280X145-5N (SOT23, 5-Leads, Body 2.90x2.80mm, Pitch 0.95mm, IPC Medium Density)
pins: 1 GND, 2 VIN, 3 VOUT, 4 NC, 5 NC

## HY911105A
designator J?
Single Port RJ45 Connector with Integrated Magnetics and LED for 10/100Base-T NIC Applications; Manufacturer: HanRun; PartNumber: HY911105A; ComponentLink2Description: Datasheet; ComponentLink2URL: HY911105A.pdf
footprint HY911105A (Single Port RJ45 Connector with Integrated Magnetics and LED for 10/100Base-T NIC Applications)
pins: 1 TD+, 2 TD-, 3 RD+, 4 TD TAP, 5 RD TAP, 6 RD-, 8 CHS GND, 9 Green Anode, 10 Green Cathode, 11 Yellow Cathode, 12 Yellow Anode, 13 SHIELD, 14 SHIELD
text: Green; Yellow

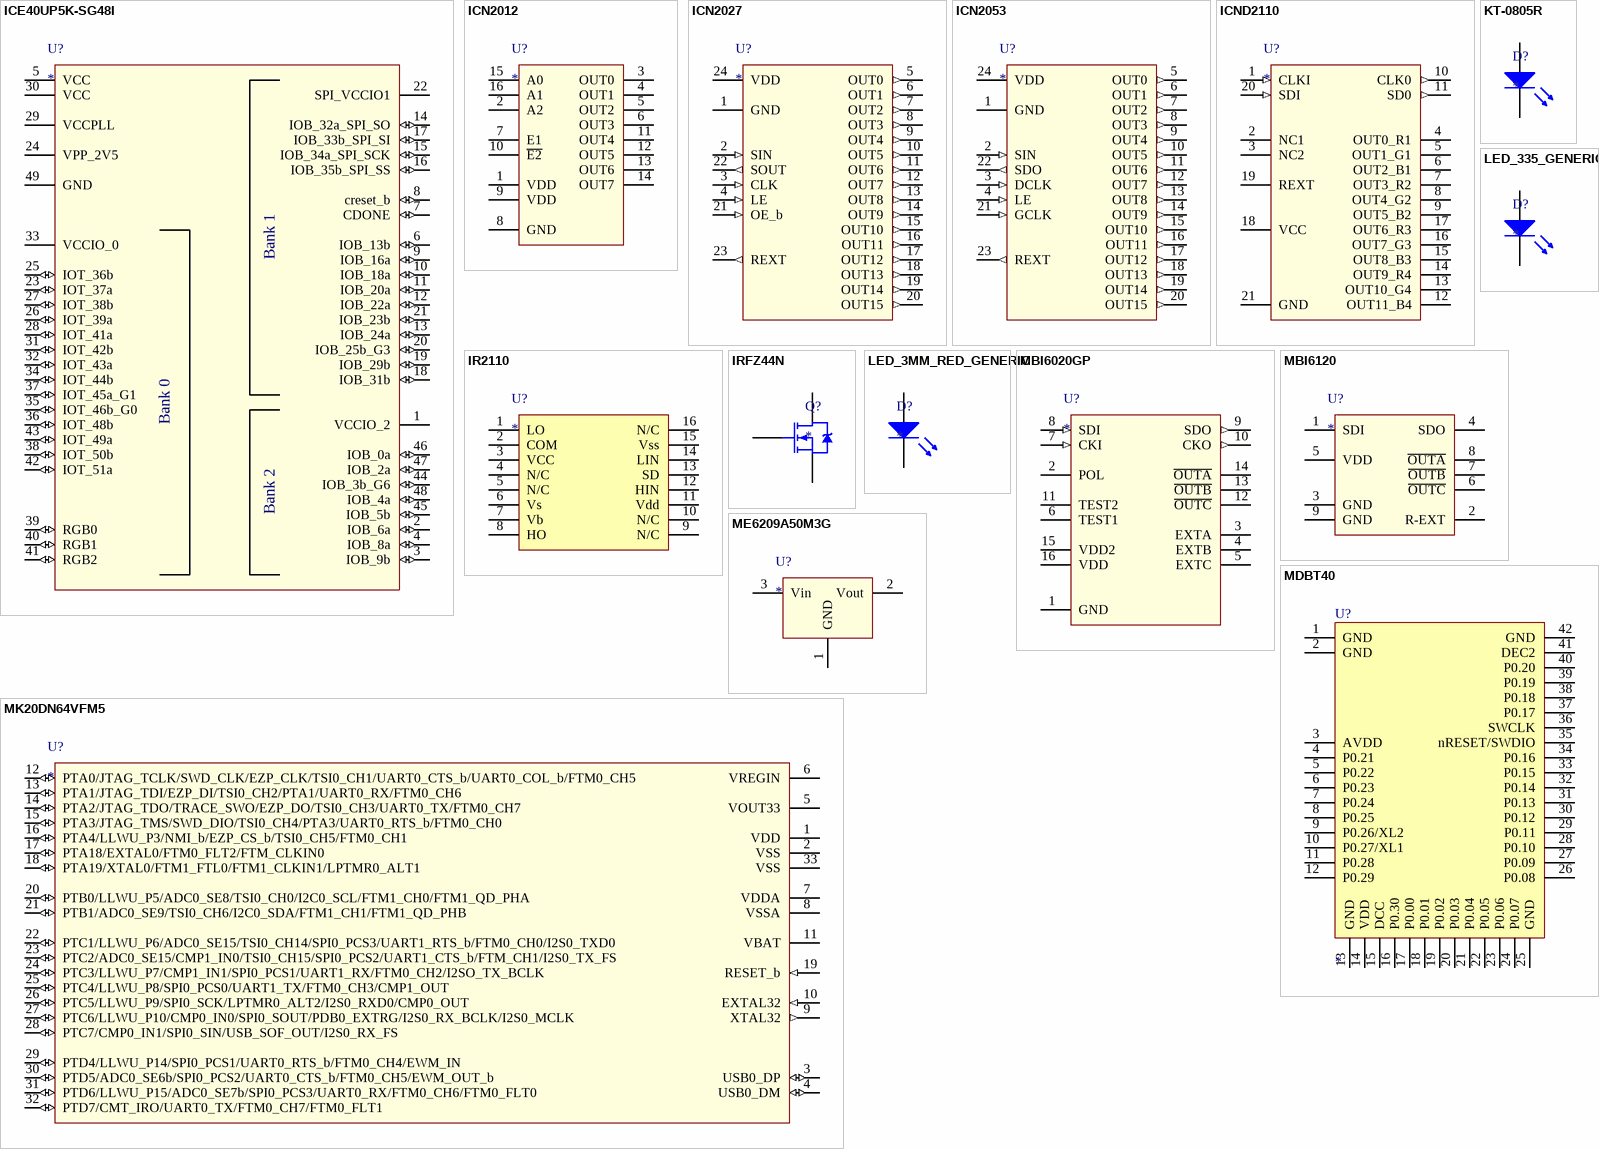
[diagram p2: symbols ICE40UP5K-SG48I to MK20DN64VFM5]

## ICE40UP5K-SG48I
designator U?
iCE40 UltraPlus FPG; Manufacturer: Lattice Semiconductor; PartNumber: ICE40UP5K-SG48I
footprint QFN50P700X700X90_HS-49N (QFN, 48-Leads, Body 7.00x7.00mm, Pitch 0.50mm, Thermal Pad 5.40x5.40mm, IPC Medium Density)
pins: 1 VCCIO_2 (power), 2 IOB_6a (io), 3 IOB_9b (io), 4 IOB_8a (io), 5 VCC (power), 6 IOB_13b (io), 7 CDONE (io), 8 creset_b (io), 9 IOB_16a (io), 10 IOB_18a (io), 11 IOB_20a (io), 12 IOB_22a (io), 13 IOB_24a (io), 14 IOB_32a_SPI_SO (io), 15 IOB_34a_SPI_SCK (io), 16 IOB_35b_SPI_SS (io), 17 IOB_33b_SPI_SI (io), 18 IOB_31b (io), 19 IOB_29b (io), 20 IOB_25b_G3 (io), 21 IOB_23b (io), 22 SPI_VCCIO1 (power), 23 IOT_37a (io), 24 VPP_2V5 (power), 25 IOT_36b (io), 26 IOT_39a (io), 27 IOT_38b (io), 28 IOT_41a (io), 29 VCCPLL (power), 30 VCC (power), 31 IOT_42b (io), 32 IOT_43a (io), 33 VCCIO_0 (power), 34 IOT_44b (io), 35 IOT_46b_G0 (io), 36 IOT_48b (io), 37 IOT_45a_G1 (io), 38 IOT_50b (io), 39 RGB0 (io), 40 RGB1 (io), 41 RGB2 (io), 42 IOT_51a (io), 43 IOT_49a (io), 44 IOB_3b_G6 (io), 45 IOB_5b (io), 46 IOB_0a (io), 47 IOB_2a (io), 48 IOB_4a (io), 49 GND (power)
text: Bank 1; Bank 0; Bank 2

## ICN2012
designator U?
8-Channel Power Switch for LED Display; Manufacturer: ChipOne; PartNumber: ICN2012
footprint SOP127P600X175-16N (SOP, 16-Leads, Body 9.90x3.90mm, Pitch 1.27mm, IPC Medium Density)
pins: 1 VDD, 2 A2, 3 OUT0, 4 OUT1, 5 OUT2, 6 OUT3, 7 E1, 8 GND, 9 VDD, 10 ~{E2}, 11 OUT4, 12 OUT5, 13 OUT6, 14 OUT7, 15 A0, 16 A1

## ICN2027
designator U?
16-Channel Constant Current LED Sink Driver; Manufacturer: ChipOne; PartNumber: ICN2027BP; ComponentLink2Description: Datasheet; ComponentLink2URL: ICN2027_datasheet_EN_2015_V0.2.pdf
footprint SOP64P600X175-24N (SOP, 24-Leads, Body 8.65x3.90mm, Pitch 0.64mm, IPC Medium Density)
pins: 1 GND (power), 2 SIN (in), 3 CLK (in), 4 LE (in), 5 OUT0 (out), 6 OUT1 (out), 7 OUT2 (out), 8 OUT3 (out), 9 OUT4 (out), 10 OUT5 (out), 11 OUT6 (out), 12 OUT7 (out), 13 OUT8 (out), 14 OUT9 (out), 15 OUT10 (out), 16 OUT11 (out), 17 OUT12 (out), 18 OUT13 (out), 19 OUT14 (out), 20 OUT15 (out), 21 OE_b (in), 22 SOUT (out), 23 REXT (out), 24 VDD (power)

## ICN2053
designator U?
16-Channel PWM Constant Current LED Sink Driver; Manufacturer: ChipOne; PartNumber: ICN2053
footprint SOP64P600X175-24N (SOP, 24-Leads, Body 8.65x3.90mm, Pitch 0.64mm, IPC Medium Density)
pins: 1 GND (power), 2 SIN (in), 3 DCLK (in), 4 LE (in), 5 OUT0 (out), 6 OUT1 (out), 7 OUT2 (out), 8 OUT3 (out), 9 OUT4 (out), 10 OUT5 (out), 11 OUT6 (out), 12 OUT7 (out), 13 OUT8 (out), 14 OUT9 (out), 15 OUT10 (out), 16 OUT11 (out), 17 OUT12 (out), 18 OUT13 (out), 19 OUT14 (out), 20 OUT15 (out), 21 GCLK (in), 22 SDO (out), 23 REXT (out), 24 VDD (power)

## ICND2110
designator U?
12-Channel PWM Constant Current LED Sink Driver; Manufacturer: ChipOne; PartNumber: ICND2110
footprint QFN50P250X450X90_HS-21N (QFN, 20-Leads, Body 2.50x4.50mm, Pitch 0.50mm, Thermal Pad 0.80x2.83mm, IPC Medium Density)
pins: 1 CLKI (in), 2 NC1, 3 NC2, 4 OUT0_R1 (oc), 5 OUT1_G1 (oc), 6 OUT2_B1 (oc), 7 OUT3_R2 (oc), 8 OUT4_G2 (oc), 9 OUT5_B2 (oc), 10 CLK0 (out), 11 SD0 (out), 12 OUT11_B4 (oc), 13 OUT10_G4 (oc), 14 OUT9_R4 (oc), 15 OUT8_B3 (oc), 16 OUT7_G3 (oc), 17 OUT6_R3 (oc), 18 VCC (power), 19 REXT (oe), 20 SDI (in), 21 GND (power)

## IR2110
designator U?
HIGH AND LOW SIDE DRIVER; Manufacturer: International Rectifier; PartNumber: IR2110; ComponentLink2Description: Datasheet; ComponentLink2URL: Ir2110.pdf
footprint SOIC127P1030X265-16N (SOIC, 16-Leads, Body 10.30x7.50mm, Pitch 1.27mm, IPC Medium Density)
pins: 1 LO, 2 COM, 3 VCC, 4 N/C, 5 N/C, 6 Vs, 7 Vb, 8 HO, 9 N/C, 10 N/C, 11 Vdd, 12 HIN, 13 SD, 14 LIN, 15 Vss, 16 N/C

## IRFZ44N
designator Q?
HEXFET® Power MOSFET; Manufacturer: International Rectifier; PartNumber: IRFZ44N; ComponentLink2Description: Datasheet; ComponentLink2URL: irfz44n.pdf
footprint TO-220AB
pins: 1 GATE, 2 DRAIN, 3 SOURCE

## KT-0805R
designator D?
Side mount LED, red, 0805; Manufacturer: Kento; PartNumber: Kt-0805R
footprint KT-0805R (Side mount LED, red, 0805)
pins: 1 A, 2 B

## LED_3MM_RED_GENERIC
designator D?
Generic 3mm LED; Manufacturer: Unknown/Generic; PartNumber: Unknown/Generic
footprint LED3MM_GENERIC (3mm thru-hole LED, generic)
pins: 1, 2

## LED_335_GENERIC
designator D?
SMD LED, side visible, generic; Manufacturer: Unknown/Generic; PartNumber: Unknown/Generic
footprint LED_335_GENERIC (SMD LED, side visible, generic)
pins: 1, 2 1

## MBI6020GP
designator U?
PWM-Embedded  3-Channel  Constant  Current LED  Sink  Driver  for  Small  RGB  Cluster; Manufacturer: Macroblock; PartNumber: MBI6020GP
footprint SOP64P600X175-16N (Footprint not found)
pins: 1 GND (power), 2 POL, 3 EXTA (oe), 4 EXTB (oe), 5 EXTC (oe), 6 TEST1, 7 CKI (in), 8 SDI (in), 9 SDO (out), 10 CKO (out), 11 TEST2, 12 ~{OUTC} (oc), 13 ~{OUTB} (oc), 14 ~{OUTA} (oc), 15 VDD2 (power), 16 VDD (power)

## MBI6120
designator U?
Single-wire  3-Channel  Constant  Current Sink  Driver  for  Small  LED  Clusters; Manufacturer: Macroblock; PartNumber: MBI6120
footprint SOP127P600X175_HS-9N (SOP, 8-Leads, Body 4.89x3.90mm, Pitch 1.27mm, Thermal Pad 2.29x2.29mm, IPC Medium Density)
pins: 1 SDI, 2 R-EXT, 3 GND, 4 SDO, 5 VDD, 6 ~{OUTC}, 7 ~{OUTB}, 8 ~{OUTA}, 9 GND

## MDBT40
designator U?
MDBT40; Manufacturer: Raytac; PartNumber: MDBT40
footprint PCB_MDBT40_10X18
pins: 1 GND, 2 GND, 3 AVDD, 4 P0.21, 5 P0.22, 6 P0.23, 7 P0.24, 8 P0.25, 9 P0.26/XL2, 10 P0.27/XL1, 11 P0.28, 12 P0.29, 13 GND, 14 VDD, 15 DCC, 16 P0.30, 17 P0.00, 18 P0.01, 19 P0.02, 20 P0.03, 21 P0.04, 22 P0.05, 23 P0.06, 24 P0.07, 25 GND, 26 P0.08, 27 P0.09, 28 P0.10, 29 P0.11, 30 P0.12, 31 P0.13, 32 P0.14, 33 P0.15, 34 P0.16, 35 nRESET/SWDIO, 36 SWCLK, 37 P0.17, 38 P0.18, 39 P0.19, 40 P0.20, 41 DEC2, 42 GND

## ME6209A50M3G
designator U?
Low Power Consumption LDO ME6209 Series; Manufacturer: Microne; PartNumber: ME6209A50M3G
footprint SOT95P230X117-3N (SOT23, 3-Leads, Body 2.90x2.30mm, Pitch 0.95mm, IPC Medium Density)
pins: 1 GND (power) "D Ground; substrate.", 2 Vout (power) "Regulated output voltage; collector of the internal PNP pass transistor.", 3 Vin (power) "Unregulated input voltage; 4.5 V to 45 V."

## MK20DN64VFM5
designator U?
Cortex M4 ARM microcontroller with USB; Manufacturer: NXP; PartNumber: MK20DN64VFM5; ComponentLink2Description: Datasheet; ComponentLink2URL: K20P32M50SF0.pdf
footprint QFN50P500X500X100_HS-33N (QFN, 32-Leads, Body 5.00x5.00mm, Pitch 0.50mm, Thermal Pad 3.65x3.65mm, IPC Medium Density)
pins: 1 VDD (power), 2 VSS (power), 3 USB0_DP (io), 4 USB0_DM (io), 5 VOUT33 (power), 6 VREGIN (power), 7 VDDA (power), 8 VSSA (power), 9 XTAL32 (out), 10 EXTAL32 (in), 11 VBAT (power), 12 PTA0/JTAG_TCLK/SWD_CLK/EZP_CLK/TSI0_CH1/UART0_CTS_b/UART0_COL_b/FTM0_CH5 (io), 13 PTA1/JTAG_TDI/EZP_DI/TSI0_CH2/PTA1/UART0_RX/FTM0_CH6 (io), 14 PTA2/JTAG_TDO/TRACE_SWO/EZP_DO/TSI0_CH3/UART0_TX/FTM0_CH7 (io), 15 PTA3/JTAG_TMS/SWD_DIO/TSI0_CH4/PTA3/UART0_RTS_b/FTM0_CH0 (io), 16 PTA4/LLWU_P3/NMI_b/EZP_CS_b/TSI0_CH5/FTM0_CH1 (io), 17 PTA18/EXTAL0/FTM0_FLT2/FTM_CLKIN0 (io), 18 PTA19/XTAL0/FTM1_FTL0/FTM1_CLKIN1/LPTMR0_ALT1 (io), 19 RESET_b (in), 20 PTB0/LLWU_P5/ADC0_SE8/TSI0_CH0/I2C0_SCL/FTM1_CH0/FTM1_QD_PHA (io), 21 PTB1/ADC0_SE9/TSI0_CH6/I2C0_SDA/FTM1_CH1/FTM1_QD_PHB (io), 22 PTC1/LLWU_P6/ADC0_SE15/TSI0_CH14/SPI0_PCS3/UART1_RTS_b/FTM0_CH0/I2S0_TXD0 (io), 23 PTC2/ADC0_SE15/CMP1_IN0/TSI0_CH15/SPI0_PCS2/UART1_CTS_b/FTM_CH1/I2S0_TX_FS (io), 24 PTC3/LLWU_P7/CMP1_IN1/SPI0_PCS1/UART1_RX/FTM0_CH2/I2SO_TX_BCLK (io), 25 PTC4/LLWU_P8/SPI0_PCS0/UART1_TX/FTM0_CH3/CMP1_OUT (io), 26 PTC5/LLWU_P9/SPI0_SCK/LPTMR0_ALT2/I2S0_RXD0/CMP0_OUT (io), 27 PTC6/LLWU_P10/CMP0_IN0/SPI0_SOUT/PDB0_EXTRG/I2S0_RX_BCLK/I2S0_MCLK (io), 28 PTC7/CMP0_IN1/SPI0_SIN/USB_SOF_OUT/I2S0_RX_FS (io), 29 PTD4/LLWU_P14/SPI0_PCS1/UART0_RTS_b/FTM0_CH4/EWM_IN (io), 30 PTD5/ADC0_SE6b/SPI0_PCS2/UART0_CTS_b/FTM0_CH5/EWM_OUT_b (io), 31 PTD6/LLWU_P15/ADC0_SE7b/SPI0_PCS3/UART0_RX/FTM0_CH6/FTM0_FLT0 (io), 32 PTD7/CMT_IRO/UART0_TX/FTM0_CH7/FTM0_FLT1 (io), 33 VSS (power) "Ground Pad"

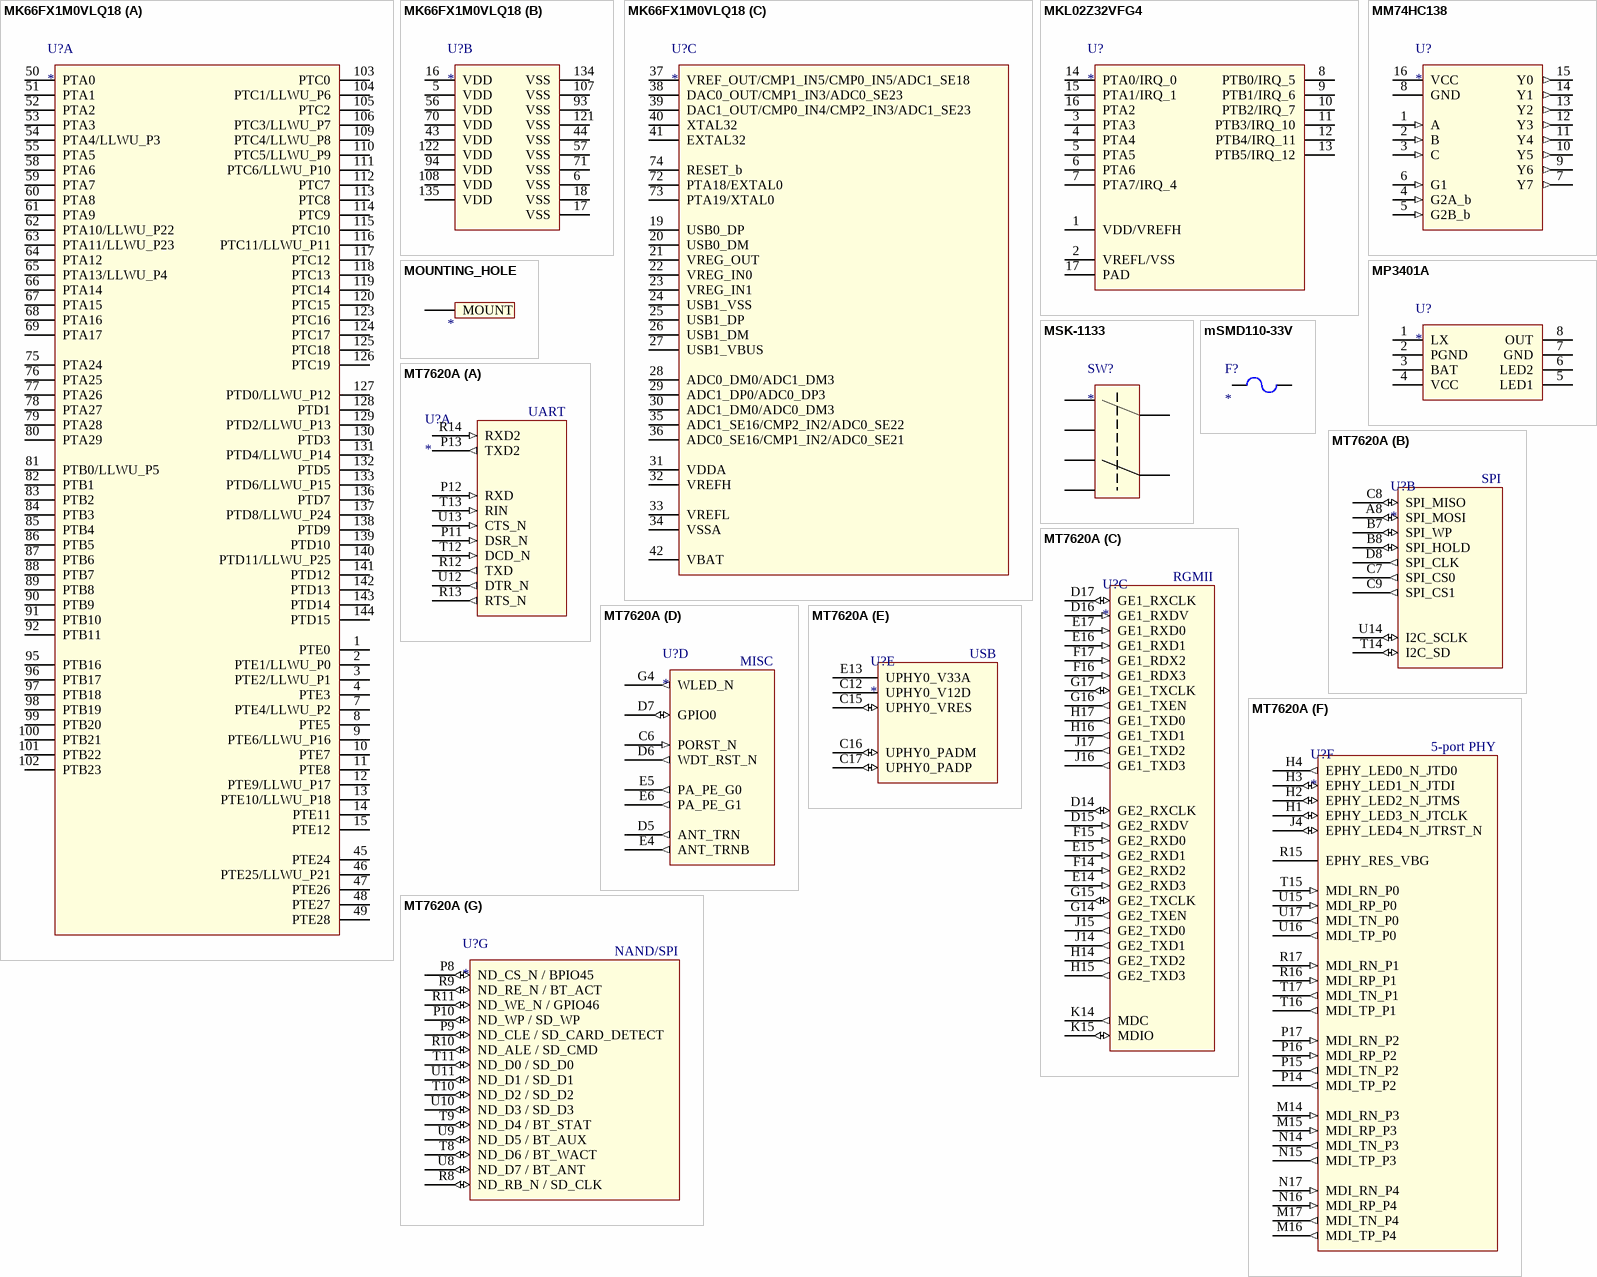
[diagram p3: symbols MK66FX1M0VLQ18 to MT7620A]

## MK66FX1M0VLQ18
designator U?
180 MHz ARM® Cortex®-M4F Microcontroller.; Manufacturer: NXP; PartNumber: MK66FX1M0VLQ18
footprint TSQFP50P2200X2200X145-144N (TSQFP, 144-Leads, Body 20.00x20.00mm, Pitch 0.50mm, IPC Medium Density)
part A pins: 1 PTE0, 2 PTE1/LLWU_P0, 3 PTE2/LLWU_P1, 4 PTE3, 7 PTE4/LLWU_P2, 8 PTE5, 9 PTE6/LLWU_P16, 10 PTE7, 11 PTE8, 12 PTE9/LLWU_P17, 13 PTE10/LLWU_P18, 14 PTE11, 15 PTE12, 45 PTE24, 46 PTE25/LLWU_P21, 47 PTE26, 48 PTE27, 49 PTE28, 50 PTA0, 51 PTA1, 52 PTA2, 53 PTA3, 54 PTA4/LLWU_P3, 55 PTA5, 58 PTA6, 59 PTA7, 60 PTA8, 61 PTA9, 62 PTA10/LLWU_P22, 63 PTA11/LLWU_P23, 64 PTA12, 65 PTA13/LLWU_P4, 66 PTA14, 67 PTA15, 68 PTA16, 69 PTA17, 75 PTA24, 76 PTA25, 77 PTA26, 78 PTA27, 79 PTA28, 80 PTA29, 81 PTB0/LLWU_P5, 82 PTB1, 83 PTB2, 84 PTB3, 85 PTB4, 86 PTB5, 87 PTB6, 88 PTB7, 89 PTB8, 90 PTB9, 91 PTB10, 92 PTB11, 95 PTB16, 96 PTB17, 97 PTB18, 98 PTB19, 99 PTB20, 100 PTB21, 101 PTB22, 102 PTB23, 103 PTC0, 104 PTC1/LLWU_P6, 105 PTC2, 106 PTC3/LLWU_P7, 109 PTC4/LLWU_P8, 110 PTC5/LLWU_P9, 111 PTC6/LLWU_P10, 112 PTC7, 113 PTC8, 114 PTC9, 115 PTC10, 116 PTC11/LLWU_P11, 117 PTC12, 118 PTC13, 119 PTC14, 120 PTC15, 123 PTC16, 124 PTC17, 125 PTC18, 126 PTC19, 127 PTD0/LLWU_P12, 128 PTD1, 129 PTD2/LLWU_P13, 130 PTD3, 131 PTD4/LLWU_P14, 132 PTD5, 133 PTD6/LLWU_P15, 136 PTD7, 137 PTD8/LLWU_P24, 138 PTD9, 139 PTD10, 140 PTD11/LLWU_P25, 141 PTD12, 142 PTD13, 143 PTD14, 144 PTD15
part B pins: 5 VDD, 6 VSS, 16 VDD, 17 VSS, 18 VSS, 43 VDD, 44 VSS, 56 VDD, 57 VSS, 70 VDD, 71 VSS, 93 VSS, 94 VDD, 107 VSS, 108 VDD, 121 VSS, 122 VDD, 134 VSS, 135 VDD
part C pins: 19 USB0_DP, 20 USB0_DM, 21 VREG_OUT, 22 VREG_IN0, 23 VREG_IN1, 24 USB1_VSS, 25 USB1_DP, 26 USB1_DM, 27 USB1_VBUS, 28 ADC0_DM0/ADC1_DM3, 29 ADC1_DP0/ADC0_DP3, 30 ADC1_DM0/ADC0_DM3, 31 VDDA, 32 VREFH, 33 VREFL, 34 VSSA, 35 ADC1_SE16/CMP2_IN2/ADC0_SE22, 36 ADC0_SE16/CMP1_IN2/ADC0_SE21, 37 VREF_OUT/CMP1_IN5/CMP0_IN5/ADC1_SE18, 38 DAC0_OUT/CMP1_IN3/ADC0_SE23, 39 DAC1_OUT/CMP0_IN4/CMP2_IN3/ADC1_SE23, 40 XTAL32, 41 EXTAL32, 42 VBAT, 72 PTA18/EXTAL0, 73 PTA19/XTAL0, 74 RESET_b

## MKL02Z32VFG4
designator U?
Kinetis KL02 32 KB Flash; Manufacturer: NXP; PartNumber: MKL02Z32VFG4
footprint QFN50P300X300X65_HS-17N (QFN, 16-Leads, Body 3.00x3.00mm, Pitch 0.50mm, Thermal Pad 1.90x1.90mm, IPC Medium Density)
pins: 1 VDD/VREFH, 2 VREFL/VSS, 3 PTA3, 4 PTA4, 5 PTA5, 6 PTA6, 7 PTA7/IRQ_4, 8 PTB0/IRQ_5, 9 PTB1/IRQ_6, 10 PTB2/IRQ_7, 11 PTB3/IRQ_10, 12 PTB4/IRQ_11, 13 PTB5/IRQ_12, 14 PTA0/IRQ_0, 15 PTA1/IRQ_1, 16 PTA2, 17 PAD

## MM74HC138
designator U?
3-to-8 Line Decoder; Manufacturer: ON Semiconductor; PartNumber: MM74HC138
footprint TSOP65P770X110-16N (TSOP, 16-Leads, Body 5.00x4.40mm, Pitch 0.65mm, IPC Medium Density)
pins: 1 A (in), 2 B (in), 3 C (in), 4 G2A_b (in), 5 G2B_b (in), 6 G1 (in), 7 Y7 (out), 8 GND (power), 9 Y6 (out), 10 Y5 (out), 11 Y4 (out), 12 Y3 (out), 13 Y2 (out), 14 Y1 (out), 15 Y0 (out), 16 VCC (power)

## MOUNTING_HOLE
designator MP?  (no BOM)
Mounting hole
footprint MOUNT_3MM (3mm mounting hole)
pins: 1 MOUNT

## MP3401A
designator U?
Lithium Ion battery charger with integrated 5v boost regulator; Manufacturer: ThinkPlus; PartNumber: MP3401A; ComponentLink2Description: Datasheet; ComponentLink2URL: MP3401A SPEC V1_2.pdf
footprint TSOP127P600X155-8N (TSOP, 8-Leads, Body 4.90x3.90mm, Pitch 1.27mm, IPC Medium Density)
pins: 1 LX, 2 PGND, 3 BAT, 4 VCC, 5 LED1, 6 LED2, 7 GND, 8 OUT

## MSK-1133
designator SW?
SMD micro toggle switch, 2 position, 2 circuit; Manufacturer: Unknown/Generic; PartNumber: MSK-1133
footprint MSK-1133 (Slide switch, 2 position, 2 circuit)
footprint MSK-1133-NOHOLE (SMD micro toggle switch, 2 position, 2 circuit)
pins: 1 A, 2, 3, 4, 5, 6

## mSMD110-33V
designator F?
Surface Mount Fuses 33V 100A 1.1A 2.2A 1812 RoHS; Manufacturer: Sea & Land Electronic Corp; PartNumber: mSMD110-33V; ComponentLink2Description: Datasheet; ComponentLink2URL: nSMD020-30V 0-2A-30V-Self-healing-fuse_C69680.pdf
footprint SEAANDLAND_1812 (Surface Mount Fuses 1812)
pins: 1, 2

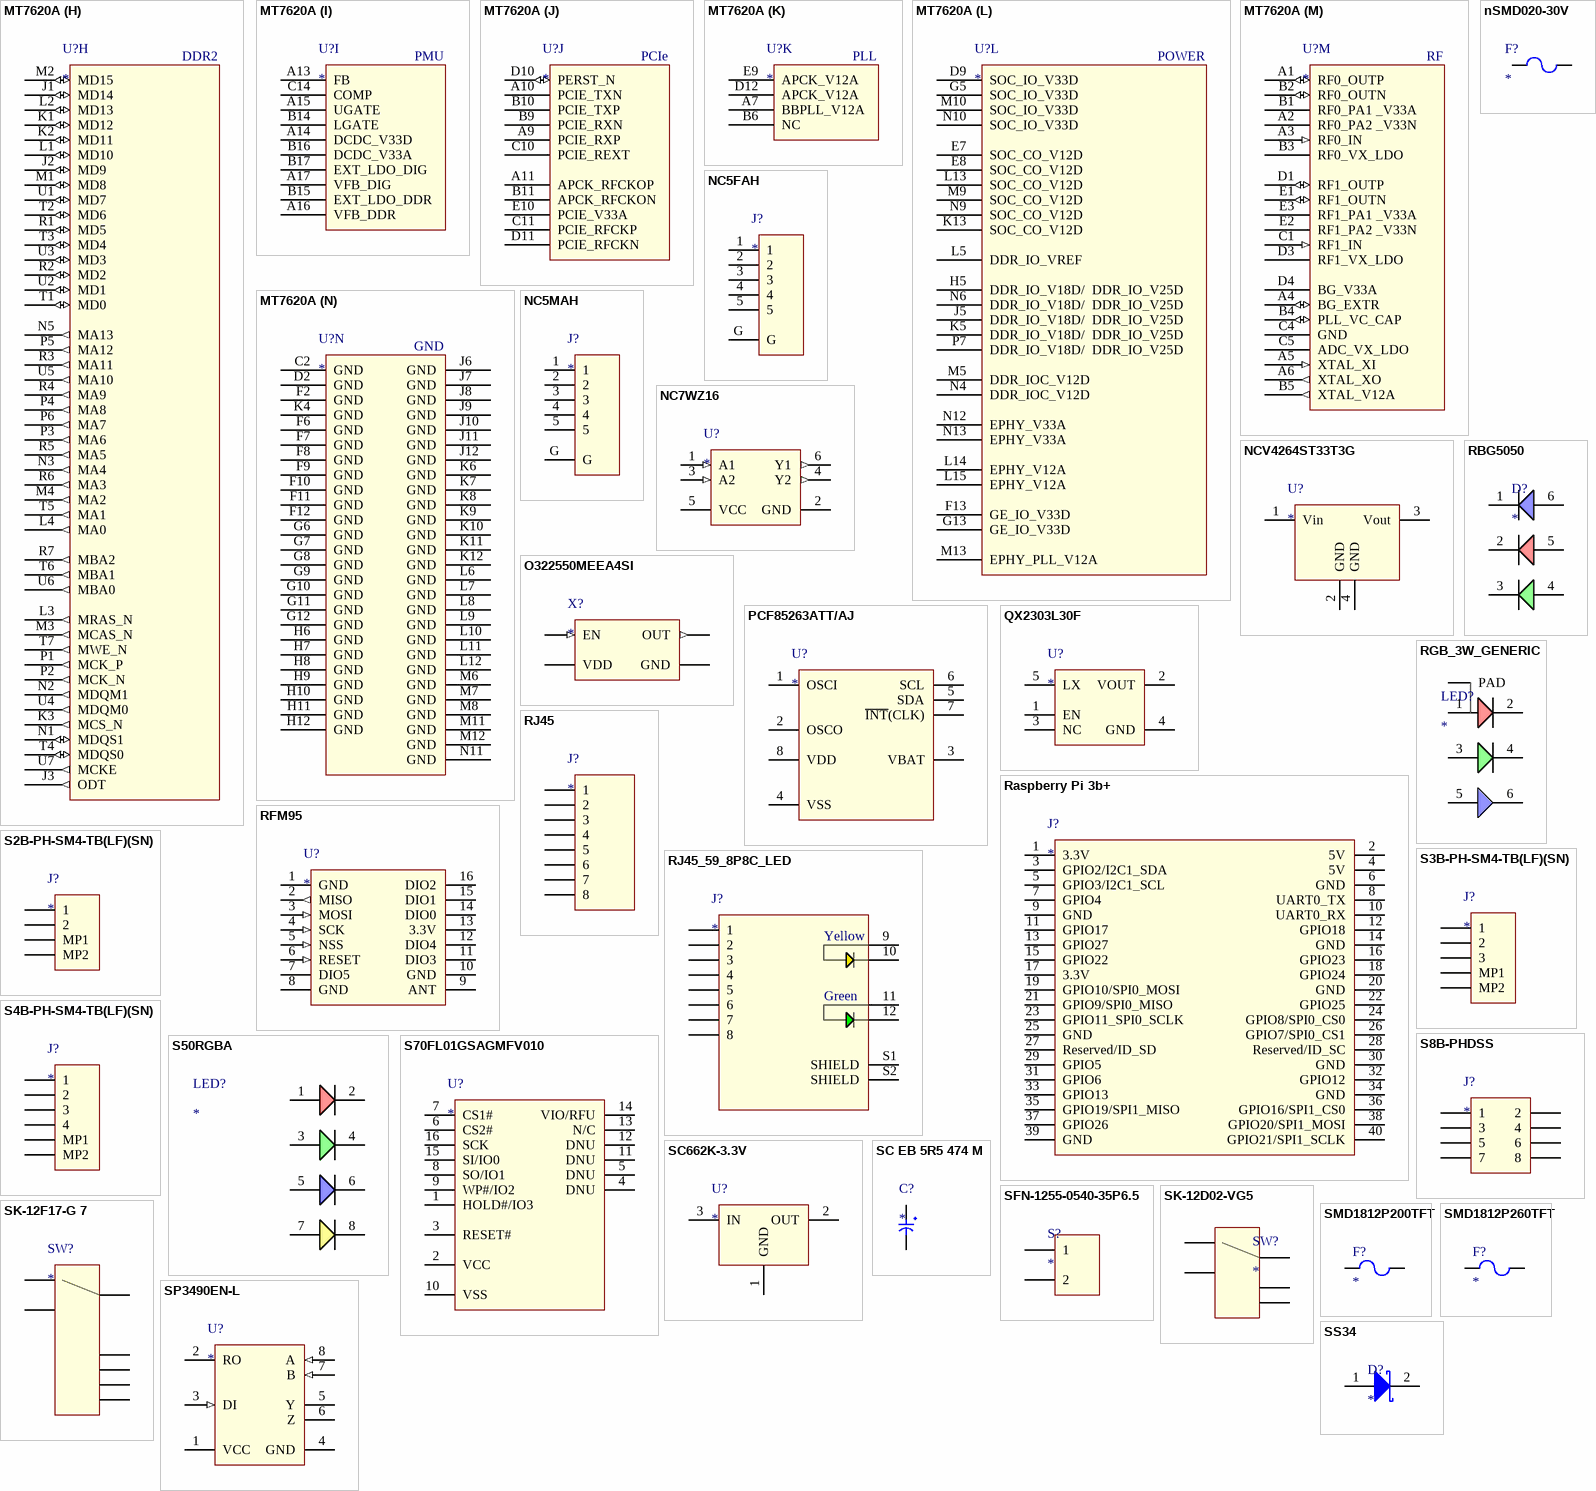
[diagram p4: symbols MT7620A to SS34]